# Altium footprint library PCBLibrary_IC.PcbLib: 9 footprints
Each footprint in its own frame and in the unit in brackets; x right, y up, seen from the top. Pads: shape width x height; smd on the part's side, far side on the other; paste and mask are expansions set on the pad; w line width, h text height; cw(c..) or ccw(c..) is an arc to the next point about the centre after c.
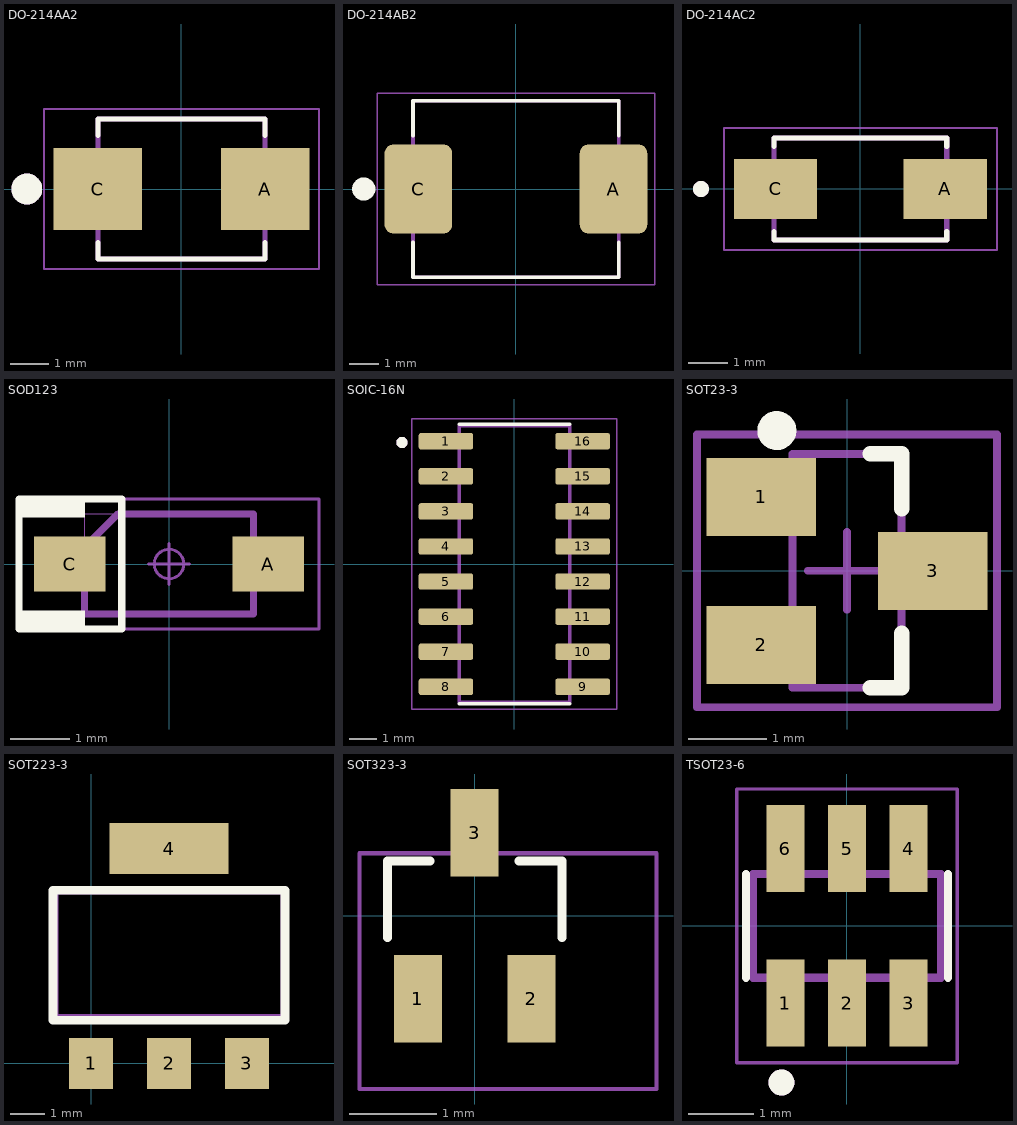
[diagram p0: the footprints below, top view; thin cyan lines are the x and y axes]

## DO-214AA2 [mm]
pads (2):
  rect 2.28x2.12 smd: A(2.165,0) C(-2.165,0)
Top Overlay:
  circle w0.4: c-4,0 r0.2
  lines w0.127: -2.163,-1.38 -2.163,-1.813 2.163,-1.813 2.163,-1.38 ; -2.163,1.38 -2.163,1.813 2.163,1.813 2.163,1.38
Mechanical 13:
  circle w0.4: c-4,0 r0.2
  lines w0.127: -2.163,-1.813 -2.163,1.813 2.163,1.813 2.163,-1.813 -2.163,-1.813
Mechanical 15:
  lines w0.05: -3.555,-2.063 -3.555,2.063 3.555,2.063 3.555,-2.063 -3.555,-2.063
3D body "step_temp.STEP": height 2.46, standoff 0, extent -2.718,-1.778 2.718,1.778

## DO-214AB2 [mm]
pads (2):
  rrect25% 2.33x3.07 smd: A(3.365,0) C(-3.365,0)
Top Overlay:
  circle w0.4: c-5.25,0 r0.2
  lines w0.127: -3.55,-1.849 -3.55,-3.05 3.55,-3.05 3.55,-1.849 ; -3.55,1.849 -3.55,3.05 3.55,3.05 3.55,1.849
Mechanical 13:
  lines w0.127: -3.55,-3.05 3.55,-3.05 3.55,3.05 -3.55,3.05 -3.55,-3.05
Mechanical 15:
  lines w0.05: -4.78,-3.3 -4.78,3.3 4.78,3.3 4.78,-3.3 -4.78,-3.3
3D body "B540C-13-F.stp": height 2.5, standoff 0, extent -3.97,-2.952 3.97,2.953

## DO-214AC2 [mm]
height 2.5
pads (2):
  rect 2.09x1.5 smd: A(2.13,0) C(-2.13,0)
Top Overlay:
  circle w0.2: c-4,0 r0.1
  lines w0.127: -2.165,-1.07 -2.165,-1.28 2.165,-1.28 2.165,-1.07 ; -2.165,1.07 -2.165,1.28 2.165,1.28 2.165,1.07
Mechanical 13:
  circle w0.2: c-4,0 r0.1
  lines w0.127: -2.165,-1.28 2.165,-1.28 2.165,1.28 -2.165,1.28 -2.165,-1.28
Mechanical 15:
  lines w0.05: -3.425,-1.53 3.425,-1.53 3.425,1.53 -3.425,1.53 -3.425,-1.53
3D body "step_temp.STEP": height 2.5, standoff 0, extent -2.57,-1.28 2.57,1.28

## SOD123 [mm]
height 1.35
pads (2):
  rect 1.21x0.93 smd: A(1.68,0) C(-1.68,0)
Top Overlay:
  rectangle: -2.54,0.787 -1.425,1.1
  rectangle: -2.54,-1.1 -1.425,-0.787
  lines w0.12: -2.54,-1.1 -0.8,-1.1 -0.8,1.1 -2.54,1.1 -2.54,-1.1
Mechanical 13:
  lines w0.001: -1.425,-0.85 1.425,-0.85 1.425,0.85 -1.425,0.85 -1.425,-0.85
  lines w0.12: -1.43,-0.85 1.43,-0.85 1.43,0.85 -0.863,0.85 -1.43,0.283 -1.43,-0.85
Mechanical 15:
  circle w0.05: c0,0 r0.25
  lines w0.05: -0.35,0 0.35,0 ; 0,-0.35 0,0.35 ; -2.54,-1.1 -2.54,1.1 2.54,1.1 2.54,-1.1 -2.54,-1.1
3D body "CircuitWorks-SOD123.STEP": height 1.27, standoff 0, extent -1.85,-0.8 1.85,0.8

## SOIC-16N [mm]
pads (16):
  rrect25% 1.97x0.59 smd: 1(-2.475,4.445) 2(-2.475,3.175) 3(-2.475,1.905) 4(-2.475,0.635) 5(-2.475,-0.635) 6(-2.475,-1.905) 7(-2.475,-3.175) 8(-2.475,-4.445) 9(2.475,-4.445) 10(2.475,-3.175) 11(2.475,-1.905) 12(2.475,-0.635) 13(2.475,0.635) 14(2.475,1.905) 15(2.475,3.175) 16(2.475,4.445)
Top Overlay:
  circle w0.2: c-4.064,4.4 r0.1
  lines w0.127: -2,-5.06 2,-5.06 ; -2,5.06 2,5.06
Mechanical 13:
  circle w0.2: c-4.064,4.4 r0.1
  lines w0.127: -2,-5 -2,5 2,5 2,-5 -2,-5
Mechanical 15:
  lines w0.05: -3.71,-5.25 -3.71,5.25 3.71,5.25 3.71,-5.25 -3.71,-5.25
3D body "STGAP2DMTR.STEP": height 1.75, standoff 0, extent -3,-4.95 3,4.95

## SOT23-3 [mm] "SOT23 semtech SM712"
height 1
pads (3):
  rect 1.4x1 smd: 1(-1.1,0.95) 2(-1.1,-0.95) 3(1.1,0)
Top Overlay:
  circle w0.25: c-0.9,1.8 r0.125
  lines w0.2: 0.3,-1.5 0.7,-1.5 0.7,-0.8 ; 0.3,1.5 0.7,1.5 0.7,0.8
Mechanical 13:
  lines w0.1: -0.7,-1.5 -0.7,1.5 0.7,1.5 0.7,-1.5 -0.7,-1.5
Mechanical 15:
  lines w0.1: -0.5,0 0.5,0 ; 0,-0.5 0,0.5 ; -1.925,-1.75 -1.925,1.75 1.925,1.75 1.925,-1.75 -1.925,-1.75
3D body: height 0.2, standoff 0, extent -1.422,0.711 -1.067,1.219
3D body: height 0.2, standoff 0, extent -1.473,-1.219 -1.067,-0.711
3D body: height 0.2, standoff 0, extent 1.067,-0.254 1.473,0.254
3D body: height 0.55, standoff 0, extent -1.067,0.711 -0.864,1.219
3D body: height 0.55, standoff 0, extent -1.067,-1.219 -0.864,-0.711
3D body: height 0.55, standoff 0, extent 0.864,-0.254 1.067,0.254
3D body: height 0.55, standoff 0.35, extent 0.66,-0.254 0.864,0.254
3D body: height 0.55, standoff 0.35, extent -0.864,-1.219 -0.66,-0.711
3D body: height 0.55, standoff 0.35, extent -0.864,0.711 -0.61,1.219
3D body: height 1.1, standoff 0.1, extent -0.7,-1.5 0.7,1.5

## SOT223-3 [mm]
height 2
pads (4):
  rect 1.3x1.5 smd: 1(0,0) 2(2.286,0) 3(4.572,0)
  rect 3.5x1.5 smd: 4(2.286,6.299)
Top Overlay:
  lines w0.254: -1.116,1.27 -1.116,5.08 5.688,5.08 5.688,1.27 -1.116,1.27
Mechanical 1:
  lines w0.2: -1.05,1.35 -1.05,5.05 5.65,5.05 5.65,1.35 -1.05,1.35
3D body "SW3dPS-sot-223.step": height 1.64, standoff -0.04, extent -1,-0.3 5.5,6.632

## SOT323-3 [mm]
pads (3):
  rect 0.55x1 smd: 1(-0.65,-0.95) 2(0.65,-0.95) 3(0,0.95)
Top Overlay:
  lines w0.1: -1,-0.254 -1,0.625 -0.508,0.625 ; 0.508,0.625 1,0.625 1,-0.254
Mechanical 20:
  lines w0.05: -1.319,-1.985 -1.319,0.715 2.081,0.715 2.081,-1.985 -1.319,-1.985
3D body "BSS138PW,115.stp": height 0.93, standoff -0.02, extent -1.084,-1.05 1.016,1.05

## TSOT23-6 [mm] "SOT23 semtech SM712"
height 1
pads (6):
  rect 0.59x1.34 smd: 1(-0.95,-1.19) 2(0,-1.19) 3(0.95,-1.19) 4(0.95,1.19) 5(0,1.19) 6(-0.95,1.19)
Top Overlay:
  circle w0.2: c-1.011,-2.416 r0.1
  lines w0.127: -1.558,-0.8 -1.558,0.8 ; 1.559,-0.8 1.559,0.8
Mechanical 13:
  circle w0.2: c-1.011,-2.416 r0.1
  lines w0.127: -1.45,-0.8 1.45,-0.8 1.45,0.8 -1.45,0.8 -1.45,-0.8
Mechanical 15:
  lines w0.05: -1.7,-2.11 1.7,-2.11 1.7,2.11 -1.7,2.11 -1.7,-2.11
3D body "step_temp.STEP": height 1, standoff 0, extent -1.45,-1.4 1.45,1.4